# EAGLE library part ATTINY85 (library nurc)
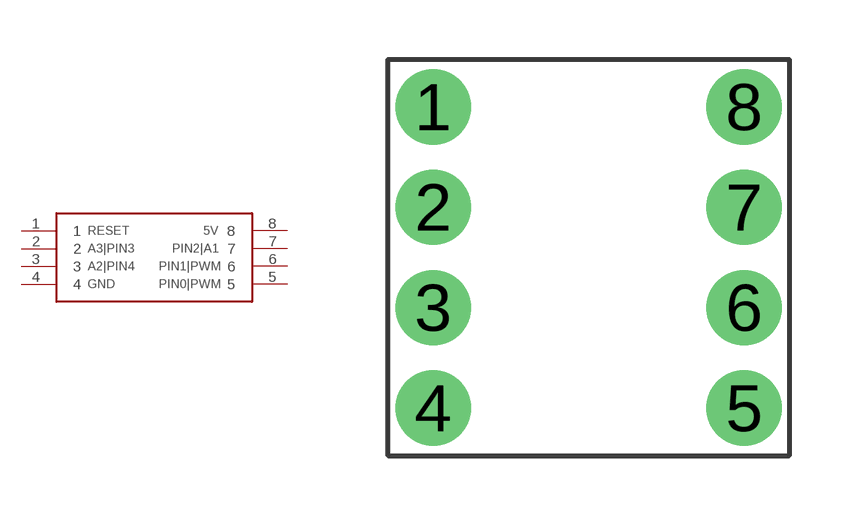
[diagram p0: symbol with the pads of ATTINY_DIP; footprint ATTINY_DIP]

Designator prefix -

## ATTINY85  [ATTINY_DIP]
1  1
2  2
3  3
4  4
5  5
6  6
7  7
8  8

## Footprint ATTINY_DIP (pad centres in mm)
drill 1.27: 1 0,8.445; 2 0,5.905; 3 0,3.365; 4 0,0.826; 5 7.874,0.826; 6 7.874,3.365; 7 7.874,5.905; 8 7.874,8.445